# EAGLE library part SWITCH_PUSHBUTTON_LED (library jhbruhn-physical)
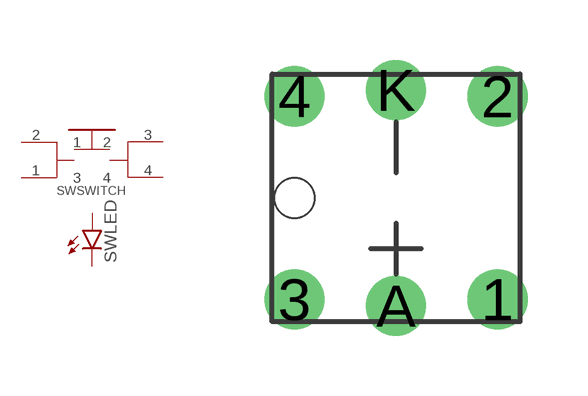
[diagram p1: symbol with the pads of PB6149L; footprint PB6149L]

Designator prefix SW; gates SWITCH=TACT_SWITCH2 LED=LED

## SWITCH_PUSHBUTTON_LED  [PB6149L]
1  SWITCH:3
2  SWITCH:1
3  SWITCH:2
4  SWITCH:4
A  LED:A  pas
K  LED:C  pas

## Footprint PB6149L (pad centres in mm)
drill 1: 1 2.54,-2.54; 2 2.54,2.54; 3 -2.54,-2.54; 4 -2.54,2.54; A 0,-2.7; K 0,2.7
hole 1 at -2.54,0